# Altium footprint library Fuse.PcbLib: 2 footprints
Each footprint in its own frame and in the unit in brackets; x right, y up, seen from the top. Pads: shape width x height; smd on the part's side, far side on the other; paste and mask are expansions set on the pad; w line width, h text height; cw(c..) or ccw(c..) is an arc to the next point about the centre after c.
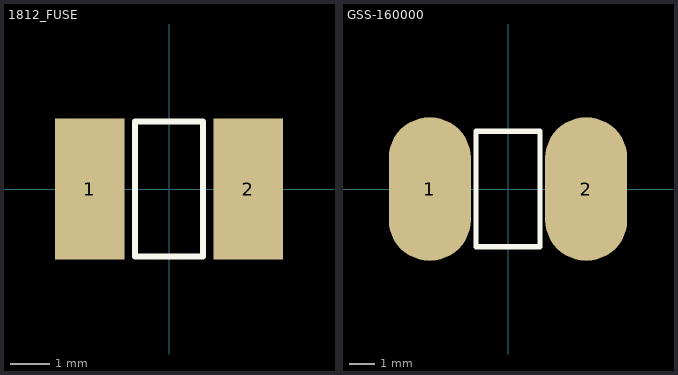
[diagram p0: the footprints below, top view; thin cyan lines are the x and y axes]

## 1812_FUSE [mm]
pads (2):
  rect 1.75x3.55 smd: 1(-2,0) 2(2,0)
Top Overlay:
  lines w0.15: -0.85,-1.7 -0.85,1.7 0.85,1.7 0.85,-1.7 -0.85,-1.7
3D body "User Library-Fuse 1812.step": height 1.01, standoff -0.02, extent -2.37,-1.74 2.365,1.74

## GSS-160000 [mm]
pads (2):
  oval 3.2x5.6 smd: 1(-3.05,0) 2(3.05,0)
Top Overlay:
  lines w0.2: -1.25,-2.25 1.25,-2.25 1.25,2.25 -1.25,2.25 -1.25,-2.25
3D body "SIBA_GSS-160000.STEP": height 4.41, standoff 0.01, extent -4,-2.2 4,2.2